# Altium schematic symbol library Schlib1.SchLib: 5 symbols
Pins are listed as number, name and electrical type; pins without a type are passive.

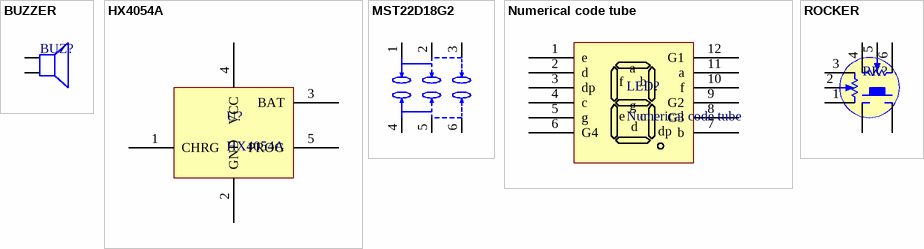
[diagram p0: symbols BUZZER to ROCKER]

## BUZZER
designator BUZ?  (value not drawn)
蜂鸣器
footprint BUZ-TH_BD9.6-P5.00-D0.7-FD
pins: 1 +, 2 -

## HX4054A
designator U?
锂电池充电芯片
footprint SOT-23-5_L3.0-W1.7-P0.95-LS2.8-BR
pins: 1 CHRG, 2 GND, 3 BAT, 4 VCC, 5 PROG

## MST22D18G2
designator SW?  (value not drawn)
六脚拨动开关; Manufacturer: SHOU HAN(首韩); Add into BOM: yes; Name: MST22D18G2; Symbol: MST22D18G2; Device: MST22D18G2; LCSC Part Name: 两档立式贴片 6脚拨动 柄长2.0MM; Supplier Part: C431544; Manufacturer Part: MST22D18G2; Supplier Footprint: SMD,3.6x9.1mm; JLCPCB Part Class: Extended Part; Datasheet: https://atta.szlcsc.com/upload/public/pdf/source/20190925/C431544_D32DFFD935A96A6C5145903882D4ABA1.pdf; Supplier: LCSC; Convert to PCB: yes
footprint SW-SMD_MST22D18G2
3D model SW-SMD_MST22D18G2
pins: 1, 2, 3, 4, 5, 6

## Numerical code tube
designator LED?
四位共阴数码管
footprint 0.28寸四位共阴数码管
pins: 1 e, 2 d, 3 dp, 4 c, 5 g, 6 G4, 7 b, 8 G3, 9 G2, 10 f, 11 a, 12 G1

## ROCKER
designator RK?  (value not drawn)
摇杆电位器
footprint ROCKER
pins: 1, 2, 3, 4, 5, 6, J1, J2